# Altium footprint library SOT95P284X110-6N.PcbLib: 1 footprints
Each footprint in its own frame and in the unit in brackets; x right, y up, seen from the top. Pads: shape width x height; smd on the part's side, far side on the other; paste and mask are expansions set on the pad; w line width, h text height; cw(c..) or ccw(c..) is an arc to the next point about the centre after c.
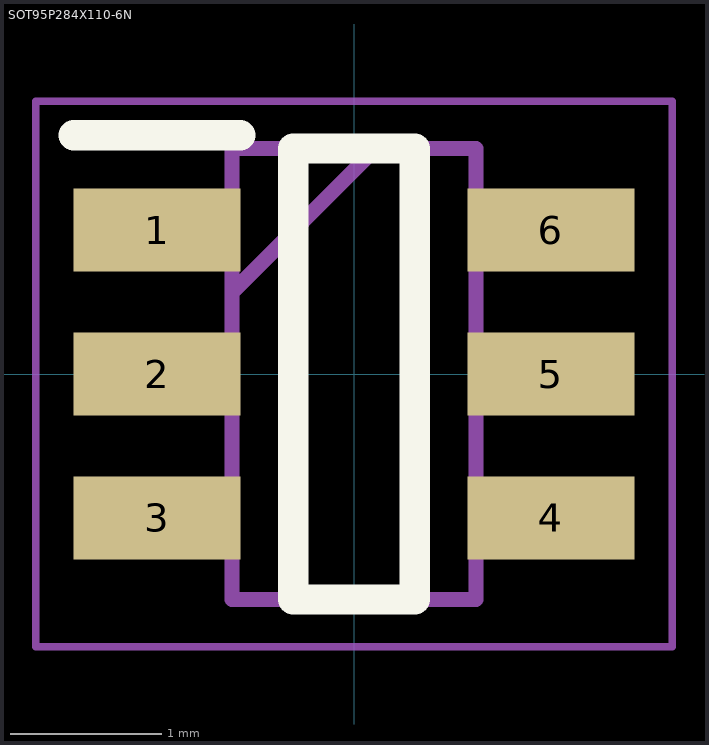
[diagram p0: the footprint, top view; thin cyan lines are the x and y axes]

## SOT95P284X110-6N [mm]
pads (6):
  rect 1.1x0.55 smd: 1(-1.3,0.95) 2(-1.3,0) 3(-1.3,-0.95) 4(1.3,-0.95) 5(1.3,0) 6(1.3,0.95)
Top Overlay:
  lines w0.2: -1.85,1.575 -0.75,1.575 ; -0.4,-1.488 0.4,-1.488 0.4,1.488 -0.4,1.488 -0.4,-1.488
Mechanical 15:
  lines w0.1: -0.806,0.538 0.144,1.488 ; -0.806,-1.488 0.806,-1.488 0.806,1.488 -0.806,1.488 -0.806,-1.488
Mechanical 20:
  lines w0.05: -2.1,-1.8 2.1,-1.8 2.1,1.8 -2.1,1.8 -2.1,-1.8
3D body "SIP32509DT-T1-GE3.stp": height 5.8, standoff -4.65, extent -10,-3.376 10,3.376